# EAGLE library part REF5025 (library BMS Lbr)
2.5V Voltage Reference
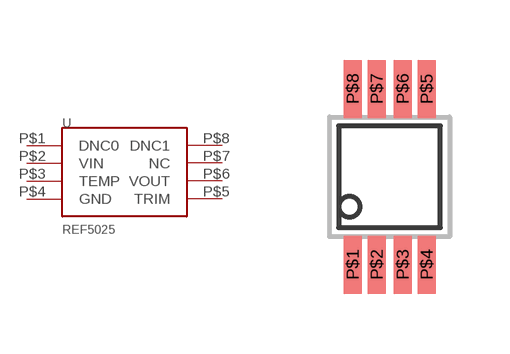
[diagram p3: symbol with the pads of TSSOP-8(TI); footprint TSSOP-8(TI)]

Designator prefix -

## REF5025  [TSSOP-8(TI)]
P$1  DNC0
P$2  VIN
P$3  TEMP
P$4  GND
P$5  TRIM
P$6  VOUT
P$7  NC
P$8  DNC1

## Footprint TSSOP-8(TI) (pad centres in mm)
smd 0.45 x 1.45: P$1 -0.925,-2.2; P$2 -0.325,-2.2; P$3 0.325,-2.2; P$4 0.925,-2.2; P$5 0.925,2.2; P$6 0.325,2.2; P$7 -0.325,2.2; P$8 -0.925,2.2